# EAGLE library part AWHW34 (library J-IDC2.54mm)
34POS 2.52MM pitch Boxheader for IDC socktest http://assmann.us/
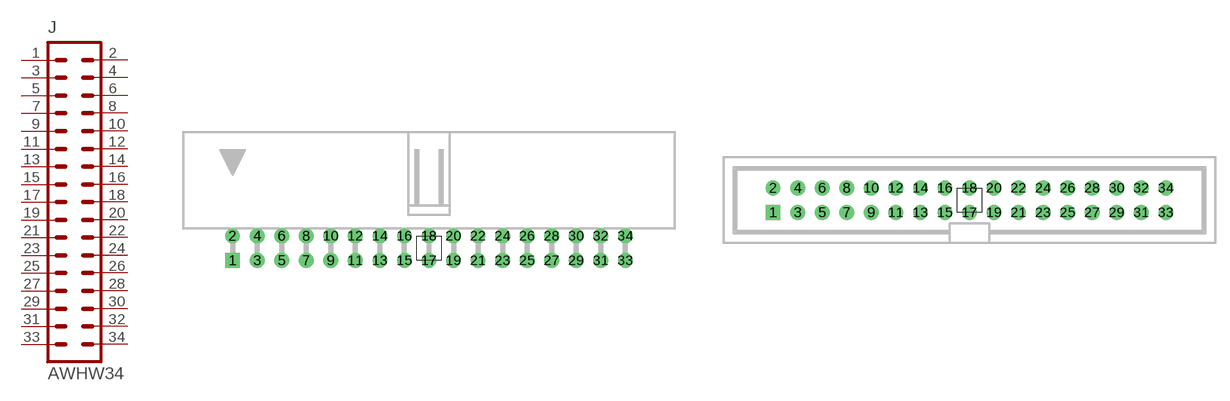
[diagram p5: symbol with the pads of 34A-0202-T-R; footprints 34A-0202-T-R, 34G-0202-T-R]

Designator prefix J

## AWHW34A-0202-T-R  [34A-0202-T-R]
1  1  pas
2  2  pas
3  3  pas
4  4  pas
5  5  pas
6  6  pas
7  7  pas
8  8  pas
9  9  pas
10  10  pas
11  11  pas
12  12  pas
13  13  pas
14  14  pas
15  15  pas
16  16  pas
17  17  pas
18  18  pas
19  19  pas
20  20  pas
21  21  pas
22  22  pas
23  23  pas
24  24  pas
25  25  pas
26  26  pas
27  27  pas
28  28  pas
29  29  pas
30  30  pas
31  31  pas
32  32  pas
33  33  pas
34  34  pas

## AWHW34G-0202-T-R  [34G-0202-T-R]
Pads as for 34A-0202-T-R

## AWHW34-G-SMD-R  [34-G-SMD-R]
Pads as for 34A-0202-T-R

## Footprint 34A-0202-T-R (pad centres in mm)
2.54MM Pitch, 1.016MM drill, diameter is auto (uses DRC restring) AWHW34A-0202-T-R
drill 1.016 square: 1 -20.32,-1.27
drill 1.016: 2 -20.32,1.27; 3 -17.78,-1.27; 4 -17.78,1.27; 5 -15.24,-1.27; 6 -15.24,1.27; 7 -12.7,-1.27; 8 -12.7,1.27; 9 -10.16,-1.27; 10 -10.16,1.27; 11 -7.62,-1.27; 12 -7.62,1.27; 13 -5.08,-1.27; 14 -5.08,1.27; 15 -2.54,-1.27; 16 -2.54,1.27; 17 0,-1.27; 18 0,1.27; 19 2.54,-1.27; 20 2.54,1.27; 21 5.08,-1.27; 22 5.08,1.27; 23 7.62,-1.27; 24 7.62,1.27; 25 10.16,-1.27; 26 10.16,1.27; 27 12.7,-1.27; 28 12.7,1.27; 29 15.24,-1.27; 30 15.24,1.27; 31 17.78,-1.27; 32 17.78,1.27; 33 20.32,-1.27; 34 20.32,1.27

## Footprint 34G-0202-T-R (pad centres in mm)
2.54MM Pitch, 1.016MM drill, diameter is auto (uses DRC restring) AWHW34G-0202-T-R
drill 1.016 square: 1 -20.32,-1.27
drill 1.016: 2 -20.32,1.27; 3 -17.78,-1.27; 4 -17.78,1.27; 5 -15.24,-1.27; 6 -15.24,1.27; 7 -12.7,-1.27; 8 -12.7,1.27; 9 -10.16,-1.27; 10 -10.16,1.27; 11 -7.62,-1.27; 12 -7.62,1.27; 13 -5.08,-1.27; 14 -5.08,1.27; 15 -2.54,-1.27; 16 -2.54,1.27; 17 0,-1.27; 18 0,1.27; 19 2.54,-1.27; 20 2.54,1.27; 21 5.08,-1.27; 22 5.08,1.27; 23 7.62,-1.27; 24 7.62,1.27; 25 10.16,-1.27; 26 10.16,1.27; 27 12.7,-1.27; 28 12.7,1.27; 29 15.24,-1.27; 30 15.24,1.27; 31 17.78,-1.27; 32 17.78,1.27; 33 20.32,-1.27; 34 20.32,1.27

## Footprint 34-G-SMD-R (pad centres in mm)
2.54MM Pitch, 3.9MM X1.02MM PAD 50% round, +/- 2.94MM offset AWHW34-G-SMD-R
smd 1.02 x 3.9: 1 -20.32,-2.94; 2 -20.32,2.94; 3 -17.78,-2.94; 4 -17.78,2.94; 5 -15.24,-2.94; 6 -15.24,2.94; 7 -12.7,-2.94; 8 -12.7,2.94; 9 -10.16,-2.94; 10 -10.16,2.94; 11 -7.62,-2.94; 12 -7.62,2.94; 13 -5.08,-2.94; 14 -5.08,2.94; 15 -2.54,-2.94; 16 -2.54,2.94; 17 0,-2.94; 18 0,2.94; 19 2.54,-2.94; 20 2.54,2.94; 21 5.08,-2.94; 22 5.08,2.94; 23 7.62,-2.94; 24 7.62,2.94; 25 10.16,-2.94; 26 10.16,2.94; 27 12.7,-2.94; 28 12.7,2.94; 29 15.24,-2.94; 30 15.24,2.94; 31 17.78,-2.94; 32 17.78,2.94; 33 20.32,-2.94; 34 20.32,2.94